# Altium footprint library TRA-TO-220.PcbLib: 2 footprints
Each footprint in its own frame and in the unit in brackets; x right, y up, seen from the top. Pads: shape width x height; smd on the part's side, far side on the other; paste and mask are expansions set on the pad; w line width, h text height; cw(c..) or ccw(c..) is an arc to the next point about the centre after c.
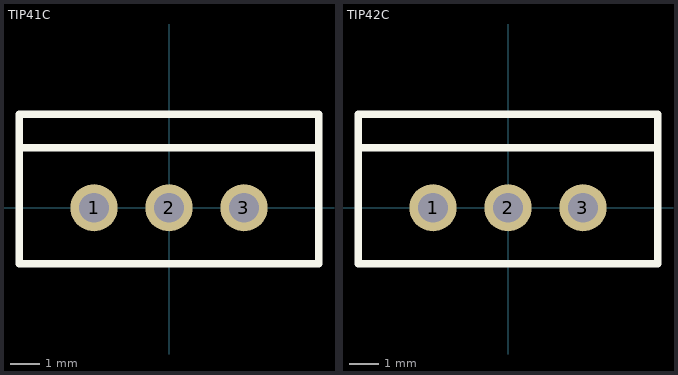
[diagram p0: the footprints below, top view; thin cyan lines are the x and y axes]

## TIP41C [mm] "NPN TO220 TRANSISTOR"
pads (3):
  round 1.6 hole 1: 1(-2.54,0) 2(0,0) 3(2.54,0)
Top Overlay:
  lines w0.254: -5.08,2.032 5.08,2.032 ; -5.08,-1.905 -5.08,3.175 5.08,3.175 5.08,-1.905 -5.08,-1.905
3D body "TRA-TIP41C.stp": height 19.46, standoff -2.24, extent -5.1,-1.778 5.1,2.932

## TIP42C [mm] "PNP TO220 TRANSISTOR"
pads (3):
  round 1.6 hole 1: 1(-2.54,0) 2(0,0) 3(2.54,0)
Top Overlay:
  lines w0.254: -5.08,2.032 5.08,2.032 ; -5.08,-1.905 5.08,-1.905 5.08,3.175 -5.08,3.175 -5.08,-1.905
3D body "TRA-TIP42C.stp": height 19.46, standoff -2.24, extent -5.1,-1.778 5.1,2.932